# EAGLE library part LL1554 (library lundahl)
LL1554
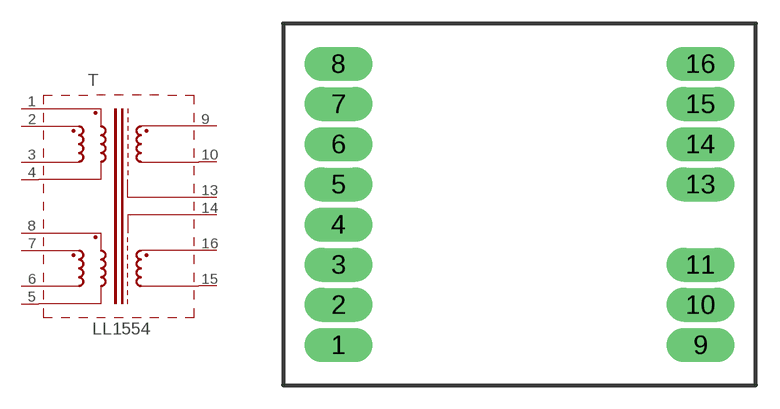
[diagram p20: symbol with the pads of LL1554; footprint LL1554]

Designator prefix T

## LL1554  [LL1554]
1  1  pas
2  2  pas
3  3  pas
4  4  pas
5  5  pas
6  6  pas
7  7  pas
8  8  pas
9  9  pas
10  10  pas
13  13  pas
14  14  pas
15  15  pas
16  16  pas

## Footprint LL1554 (pad centres in mm)
LL1554
drill 1.422 pad 1.905 long: 1 -11.43,-8.89; 2 -11.43,-6.35; 3 -11.43,-3.81; 4 -11.43,-1.27; 5 -11.43,1.27; 6 -11.43,3.81; 7 -11.43,6.35; 8 -11.43,8.89; 9 11.43,-8.89; 10 11.43,-6.35; 11 11.43,-3.81; 13 11.43,1.27; 14 11.43,3.81; 15 11.43,6.35; 16 11.43,8.89